# EAGLE library part 736-708 (library con-wago_736)
Serie 736, Doppelstock-Klemmenleiste für Leiterplatten 2 Lötstifte in Reihe / Series 736, Double-deck PCB terminal strip 2 solder pins, in line Polzahl / Pole No.: 8 Rastermaß / Pitch: 10 mm Bemessungsspannung / Rated Voltage: 1000 V Nennstrom / Nominal Current: 21 A Leiterquerschnitt / Conductor Size: 0.08 - 2.5 mm² Anschlusstechnik / Connection Technology: CAGE CLAMP® Lötstiftlänge: / Solder Pin Length: 4 mm Leitereinführung (zur Platine) / Conductor entry angle (to PCB): 45 ° Farbe / Color: grau / gray Stand: 01.01.2012. Die jeweils aktuellen Daten zu diesem Artikel finden Sie in unserem Produktkatalog, den Sie unter www.wago.com einsehen können. As of: 01/01/2012. Please find the newest data for this article in our product catalogue, which can be viewed under www.wago.com.
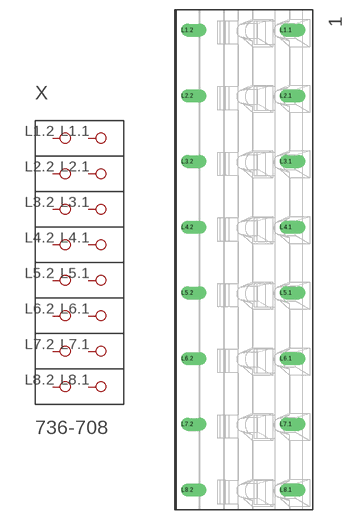
[diagram p29: symbol with the pads of P-736-708; footprint P-736-708]

Designator prefix X

## 736-708  [P-736-708]
L1.1  P1.1
L1.2  P1.2
L2.1  P2.1
L2.2  P2.2
L3.1  P3.1
L3.2  P3.2
L4.1  P4.1
L4.2  P4.2
L5.1  P5.1
L5.2  P5.2
L6.1  P6.1
L6.2  P6.2
L7.1  P7.1
L7.2  P7.2
L8.1  P8.1
L8.2  P8.2

## Footprint P-736-708 (pad centres in mm)
drill 1.3 offset: L1.1 6.4,34.95; L1.2 -8.6,34.95; L2.1 6.4,24.95; L2.2 -8.6,24.95; L3.1 6.4,14.95; L3.2 -8.6,14.95; L4.1 6.4,4.95; L4.2 -8.6,4.95; L5.1 6.4,-5.05; L5.2 -8.6,-5.05; L6.1 6.4,-15.05; L6.2 -8.6,-15.05; L7.1 6.4,-25.05; L7.2 -8.6,-25.05; L8.1 6.4,-35.05; L8.2 -8.6,-35.05